# EAGLE library part PIC16F1718-I_SO (library SamacSys_Parts)
Microchip Technology PIC16F1718-I/SO, 8bit 8 bit CPU Microcontroller, 32MHz, 28 kB Flash, 28-Pin SOIC Source: Datasheet <https://www.arrow.com/en/products/pic16f1718-iso/microchip-technology>
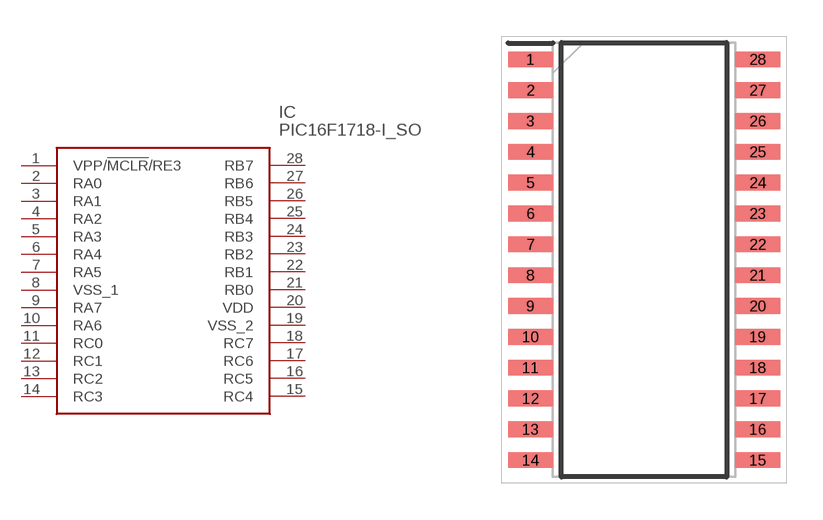
[diagram p0: symbol with the pads of SOIC127P1030X265-28N; footprint SOIC127P1030X265-28N]

Designator prefix IC

## PIC16F1718-I_SO (DESCRIPTION: Microchip Technology PIC16F1718-I/SO, 8bit 8 bit CPU Microcontroller, 32MHz, 28 kB Flash, 28-Pin SOIC; HEIGHT: 2.65mm; MANUFACTURER_NAME: Microchip; MANUFACTURER_PART_NUMBER: PIC16F1718-I/SO; MOUSER_PART_NUMBER: 579-PIC16F1718-I/SO; MOUSER_PRICE-STOCK: https://www.mouser.co.uk/ProductDetail/Microchip-Technology/PIC16F1718-I-SO?qs=PQDAUpz3sUOn5GSmEr0F%2FA%3D%3D)  [SOIC127P1030X265-28N]
1  VPP/!MCLR!/RE3
2  RA0
3  RA1
4  RA2
5  RA3
6  RA4
7  RA5
8  VSS_1
9  RA7
10  RA6
11  RC0
12  RC1
13  RC2
14  RC3
15  RC4
16  RC5
17  RC6
18  RC7
19  VSS_2
20  VDD
21  RB0
22  RB1
23  RB2
24  RB3
25  RB4
26  RB5
27  RB6
28  RB7

## Footprint SOIC127P1030X265-28N (pad centres in mm)
PIC16F1718-I/SO
smd 1.85 x 0.65: 1 -4.675,8.255; 2 -4.675,6.985; 3 -4.675,5.715; 4 -4.675,4.445; 5 -4.675,3.175; 6 -4.675,1.905; 7 -4.675,0.635; 8 -4.675,-0.635; 9 -4.675,-1.905; 10 -4.675,-3.175; 11 -4.675,-4.445; 12 -4.675,-5.715; 13 -4.675,-6.985; 14 -4.675,-8.255; 15 4.675,-8.255; 16 4.675,-6.985; 17 4.675,-5.715; 18 4.675,-4.445; 19 4.675,-3.175; 20 4.675,-1.905; 21 4.675,-0.635; 22 4.675,0.635; 23 4.675,1.905; 24 4.675,3.175; 25 4.675,4.445; 26 4.675,5.715; 27 4.675,6.985; 28 4.675,8.255